# Altium integrated library WL-SMTW SMD TOP LED mono-color waterclear.IntLib: 6 symbols
Pins are listed as number, name and electrical type; pins without a type are passive.

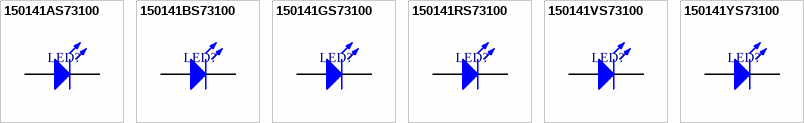
[diagram p0: symbols 150141AS73100 to 150141YS73100]

## 150141AS73100
designator LED?
SMD mono-color Top LED, WL-SMTW, Amber; PartNumber: 150141AS73100; PackageReference: 3528; Color: Amber; ComponentLink1Description: Manufacturer URL; ComponentLink1URL: http://www.we-online.com; ComponentLink2Description: Datasheet; ComponentLink2URL: http://katalog.we-online.com/led/datasheet/150141AS73100.pdf
footprint 3528 (Chip LED, 2-Leads, Body 3.5x2.8mm, IPC Medium Density)
pins: 1 K, 2 A

## 150141BS73100
designator LED?
SMD mono-color Top LED, WL-SMTW, Blue; PartNumber: 150141BS73100; PackageReference: 3528; Color: Blue; ComponentLink1Description: Manufacturer URL; ComponentLink1URL: http://www.we-online.com; ComponentLink2Description: Datasheet; ComponentLink2URL: http://katalog.we-online.com/led/datasheet/150141BS73100.pdf
footprint 3528 (Chip LED, 2-Leads, Body 3.5x2.8mm, IPC Medium Density)
pins: 1 K, 2 A

## 150141GS73100
designator LED?
SMD mono-color Top LED, WL-SMTW, Green; PartNumber: 150141GS73100; PackageReference: 3528; Color: Green; ComponentLink1Description: Manufacturer URL; ComponentLink1URL: http://www.we-online.com; ComponentLink2Description: Datasheet; ComponentLink2URL: http://katalog.we-online.com/led/datasheet/150141GS73100.pdf
footprint 3528 (Chip LED, 2-Leads, Body 3.5x2.8mm, IPC Medium Density)
pins: 1 K, 2 A

## 150141RS73100
designator LED?
SMD mono-color Top LED, WL-SMTW, Red; PartNumber: 150141RS73100; PackageReference: 3528; Color: Red; ComponentLink1Description: Manufacturer URL; ComponentLink1URL: http://www.we-online.com; ComponentLink2Description: Datasheet; ComponentLink2URL: http://katalog.we-online.com/led/datasheet/150141RS73100.pdf
footprint 3528 (Chip LED, 2-Leads, Body 3.5x2.8mm, IPC Medium Density)
pins: 1 K, 2 A

## 150141VS73100
designator LED?
SMD mono-color Top LED, WL-SMTW, Bright Green; PartNumber: 150141VS73100; PackageReference: 3528; Color: Bright Green; ComponentLink1Description: Manufacturer URL; ComponentLink1URL: http://www.we-online.com; ComponentLink2Description: Datasheet; ComponentLink2URL: http://katalog.we-online.com/led/datasheet/150141VS73100.pdf
footprint 3528 (Chip LED, 2-Leads, Body 3.5x2.8mm, IPC Medium Density)
pins: 1 K, 2 A

## 150141YS73100
designator LED?
SMD mono-color Top LED, WL-SMTW, Yellow; PartNumber: 150141YS73100; PackageReference: 3528; Color: Yellow; ComponentLink1Description: Manufacturer URL; ComponentLink1URL: http://www.we-online.com; ComponentLink2Description: Datasheet; ComponentLink2URL: http://katalog.we-online.com/led/datasheet/150141YS73100.pdf
footprint 3528 (Chip LED, 2-Leads, Body 3.5x2.8mm, IPC Medium Density)
pins: 1 K, 2 A